# EAGLE library part MAX1300 (library di_ic)
http://datasheets.maxim-ic.com/en/ds/MAX1300-MAX1301.pdf
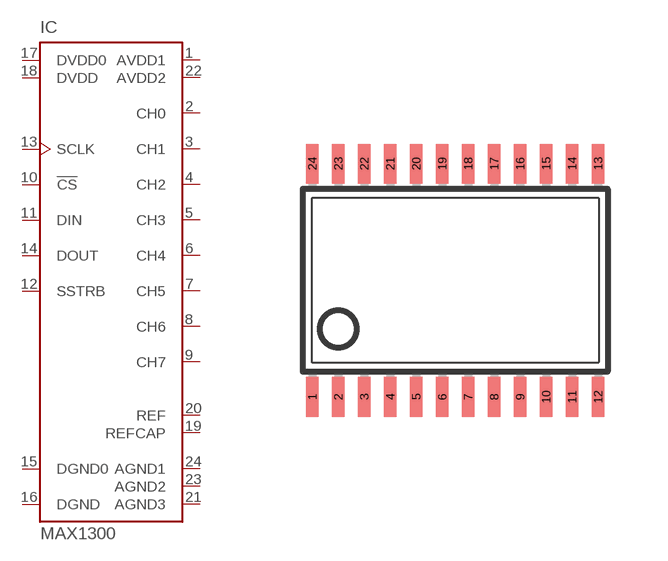
[diagram p24: symbol with the pads of TSSOP24; footprint TSSOP24]

Designator prefix IC

## MAX1300  [TSSOP24]
1  AVDD1  pwr
2  CH0  in
3  CH1  in
4  CH2  in
5  CH3  in
6  CH4  in
7  CH5  in
8  CH6  in
9  CH7  in
10  !CS  in
11  DIN  in
12  SSTRB  out
13  SCLK  in
14  DOUT  out
15  DGND0  pwr
16  DGND  pwr
17  DVDD0  pwr
18  DVDD  pwr
19  REFCAP  in
20  REF  in
21  AGND3  pwr
22  AVDD2  pwr
23  AGND2  pwr
24  AGND1  pwr

## Footprint TSSOP24 (pad centres in mm)
Thin Shrink Small Outline Plastic 24 MAX3223-MAX3243.pdf
smd 0.305 x 0.991: 1 -3.575,-2.918; 2 -2.925,-2.918; 3 -2.275,-2.918; 4 -1.625,-2.918; 5 -0.975,-2.918; 6 -0.325,-2.918; 7 0.325,-2.918; 8 0.975,-2.918; 9 1.625,-2.918; 10 2.275,-2.918; 11 2.925,-2.918; 12 3.575,-2.918; 13 3.575,2.918; 14 2.925,2.918; 15 2.275,2.918; 16 1.625,2.918; 17 0.975,2.918; 18 0.325,2.918; 19 -0.325,2.918; 20 -0.975,2.918; 21 -1.625,2.918; 22 -2.275,2.918; 23 -2.925,2.918; 24 -3.575,2.918